# EAGLE library part MOD_ESP12 (library akita)
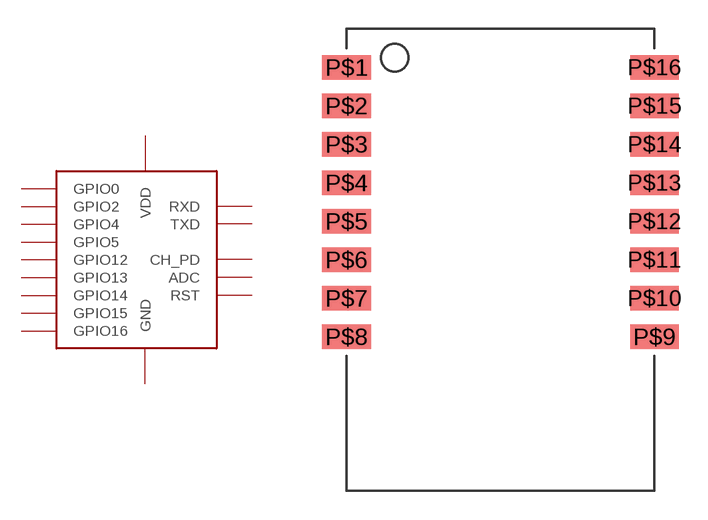
[diagram p83: symbol with the pads of MOD_ESP12; footprint MOD_ESP12]

Designator prefix -

## MOD_ESP12  [MOD_ESP12]
P$1  GND
P$2  GPIO15
P$3  GPIO2
P$4  GPIO0
P$5  GPIO5
P$6  GPIO4
P$7  RXD
P$8  TXD
P$9  RST
P$10  ADC
P$11  CH_PD
P$12  GPIO16
P$13  GPIO14
P$14  GPIO12
P$15  GPIO13
P$16  VDD

## Footprint MOD_ESP12 (pad centres in mm)
smd 2.54 x 1.27: P$1 -8,14; P$2 -8,12; P$3 -8,10; P$4 -8,8; P$5 -8,6; P$6 -8,4; P$7 -8,2; P$8 -8,0; P$9 8,0; P$10 8,2; P$11 8,4; P$12 8,6; P$13 8,8; P$14 8,10; P$15 8,12; P$16 8,14